# Altium schematic symbol library Inductors.SchLib: 19 symbols
Pins are listed as number, name and electrical type; pins without a type are passive.

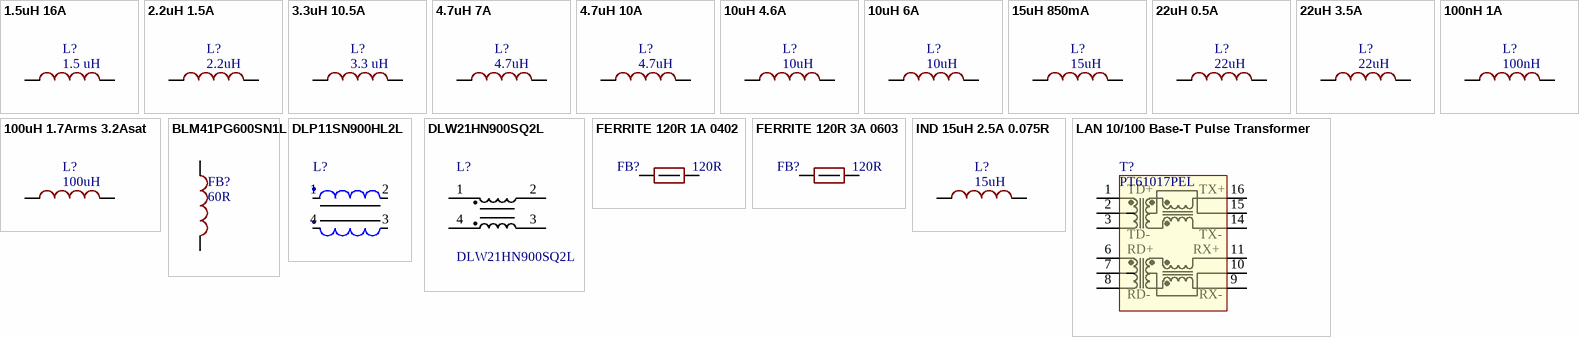
[diagram p0: symbols 1.5uH 16A to LAN 10/100 Base-T Pulse Transformer]

## 1.5uH 16A
designator L?, comment 1.5 uH
FIXED IND 1.5UH 16A 4.6 MOHM SMD; MANUFACTURER: Bournes; MANUFACTURER #: SRP1038A-1R5M; Part Description: 1.5µH Shielded Wirewound Inductor 16A 4.6 mOhm Max Nonstandard; EE_SPEC: 1.5uH 16Arms 33Asat 4.6mOhm; Tolerance: +/- 20%; Value: 1.5 uH; DISTRIBUTOR #: SRP1038A-1R5MCT-ND; DISTRIBUTOR: Digi-Key; PART: 1.5uH 16A
footprint IND_10X10
pins: 1, 2

## 2.2uH 1.5A
designator L?, comment 2.2uH
FIXED IND 2.2UH 1.37A 90 MOHM; MANUFACTURER: Taiyo Yuden; MANUFACTURER #: NRH3012T2R2MN; PART: FIXED IND 2.2UH 1.5A 90 MOHM SMD; Part Description: 2.2µH Shielded Wirewound Inductor 1.37A 90mOhm Max Nonstandard; EE_SPEC: 2.2uH 1.37Arms 1.5Asat 90mOhm; Tolerance: +/- 20%; Value: 2.2uH
footprint INDP3030X15L (Precision Wire Wound Inductor, 2-Leads, Body 3.00x3.00mm, IPC High Density)
pins: 1, 2

## 3.3uH 10.5A
designator L?, comment 3.3 uH
FIXED IND 3.3UH 10.5A 5.67 MOHM; MANUFACTURER: Eaton; MANUFACTURER #: DR127-3R3-R; Part Description: 3.3µH Shielded Wirewound Inductor 10.5A 5.67 mOhm Nonstandard; EE_SPEC: 3.3uH 10.5Arms 21.5Asat 5.67mOhm; Tolerance: +/- 20%; Value: 3.3 uH; DISTRIBUTOR #: 513-1221-2-ND; DISTRIBUTOR: Digi-Key; PART: 3.3uH 10.5A
footprint IND_12.5x12.5_DR127
pins: 1, 2

## 4.7uH 7A
designator L?, comment 4.7uH
FIXED IND 4.7UH 7A 15.5 MOHM SMD; Manufacturer: Wurth; MANUFACTURER #: 74437368047; Part Description: 4.7µH Shielded Molded Inductor 7A 15.5 mOhm Max Nonstandard; EE_SPEC: Irms=7A, Isat=17A,DCR=0.016Ohms; Tolerance: +/- 20%; Value: 4.7uH; DISTRIBUTOR #: 732-3389-1-ND; DISTRIBUTOR: Digi-Key; PART: 4.7uH 7A
footprint IND_10X10
pins: 1, 2

## 4.7uH 10A
designator L?, comment 4.7uH
FIXED IND 4.7UH 10A 15.5 MOHM; Manufacturer: Bourns; MANUFACTURER #: SRP1038A-4R7M; Part Description: 4.7µH Shielded Wirewound Inductor 10A 15.5 mOhm Max Nonstandard; EE_SPEC: Irms=10A, Isat=17A, DCR=0.016Ohms; Tolerance: +/- 20%; Value: 4.7uH; DISTRIBUTOR #: SRP1038A-4R7MTR-ND; DISTRIBUTOR: Digi-Key; PART: 4.7uH 10A
footprint IND_10X10
pins: 1, 2

## 10uH 4.6A
designator L?, comment 10uH
FIXED IND 10UH 4.6A 33 MOHM SMD; Manufacturer: Bournes; MANUFACTURER #: SRN8040TA-100M; Part Description: 10µH Semi-Shielded Wirewound Inductor 4.6A 33 mOhm Nonstandard; EE_SPEC: Irms=4.6A, Isat=5A,DCR=0.033Ohms; Tolerance: +/- 20%; Value: 10uH; DISTRIBUTOR #: SRN8040TA-100MTR-ND; DISTRIBUTOR: Digi-Key; PART: 10uH 4.6A
footprint IND_SRN8040
pins: 1, 2

## 10uH 6A
designator L?, comment 10uH
FIXED IND 10UH 6A 19.5 MOHM SMD; MANUFACTURER: Bourns; MANUFACTURER #: SRR1280-100M; Part Description: 10µH Shielded Wirewound Inductor 6A 19.5 mOhm Max Nonstandard; EE_SPEC: 10uH 6Arms 6.3Asat 19.5mOhm; Tolerance: +/- 20%; Value: 10uH; DISTRIBUTOR #: SRR1280-100MCT-ND; DISTRIBUTOR: Digi-Key; PART: FIXED IND 10UH 6A 19.5 MOHM SMD
footprint IND_12.5X12.5
pins: 1, 2

## 15uH 850mA
designator L?, comment 15uH
FIXED IND 15UH 850MA 252 MOHM; Manufacturer: Yaiyo Yuden; MANUFACTURER #: NRS4018T150MDGJ; Part Description: 15µH Shielded Wirewound Inductor 850mA 252mOhm Max Nonstandard; Tolerance: +/- 20%; Value: 15uH; EE_SPEC: 15UH 850MA 252 MOHM; PART: NRS4018T150MDGJ
footprint IND_4X4
pins: 1, 2

## 22uH 0.5A
designator L?, comment 22uH
FIXED IND 22UH 500MA 756 MOHM; Manufacturer: Yaiyo Yuden; MANUFACTURER #: NRH3012T220MN; PART: 22uH 0.5A; Part Description: 22µH Shielded Wirewound Inductor 500mA 756 mOhm Max Nonstandard; EE_SPEC: 500mA_rms, 500mA_sat, Shielded, 756mOhm; Tolerance: +/- 20%; Value: 22uH; DISTRIBUTOR #: 587-2588-1-ND; DISTRIBUTOR: Digi-Key
footprint IND_3X3
pins: 1, 2

## 22uH 3.5A
designator L?, comment 22uH
FIXED IND 22UH 3.5A 43 MOHM SMD; Manufacturer: Bournes; MANUFACTURER #: SRR1208-220ML; Part Description: 22µH Shielded Wirewound Inductor 3.5A 43 mOhm Max Nonstandard; EE_SPEC: Irms=3.5A, Isat=4A,DCR=0.043Ohms; Tolerance: +/- 20%; Value: 22uH; DISTRIBUTOR #: SRR1208-220MLTR-ND; DISTRIBUTOR: Digi-Key; PART: 22uH 3.5A
footprint IND_SRR1208
pins: 1, 2

## 100nH 1A
designator L?, comment 100nH
FIXED IND 100NH 1.15A 70 MOHM; MANUFACTURER: TDK; MANUFACTURER #: MLZ2012DR10DT000; PART: 100nH 1A; Part Description: 100nH Shielded Multilayer Inductor 1.15A 70mOhm 0805 (2012 Metric); Tolerance: +/- 20%; Value: 100nH; EE_SPEC: 100NH 1.15A 70 MOHM
footprint C0805
pins: 1, 2

## 100uH 1.7Arms 3.2Asat
designator L?, comment 100uH
FIXED IND 100UH 1.7A 190 MOHM; MANUFACTURER: Bourns; MANUFACTURER2 #: SDR1806-101KL; MANUFACTURER #: PM5022-101M-RC; Part Description: 100µH Unshielded Wirewound Inductor 1.7A 190 mOhm Nonstandard; EE_SPEC: 1.7Arms 3.2Asat 190mOhm; Tolerance: +/- 20%; Value: 100uH; MANUFACTURER2: Bourns; DISTRIBUTOR #: M8603TR-ND; DISTRIBUTOR: Digi-Key; PART: 100uH
footprint IND18x14
pins: 1, 2

## BLM41PG600SN1L
designator FB?  value 60R  (hidden comment: BLM41PG600SN1L)
FERRITE BEAD 1806 60ohm; Manufacturer: Murata; PART: 60Rf; Part Description: FERRITE BEAD 60 OHM 1806 1LN; EE_SPEC: 60R 6A 0.009Ohm; Tolerance: NA; MANUFACTURER #: BLM41PG600SN1L; DISTRIBUTOR #: 490-1058-2-ND; DISTRIBUTOR: Digi-Key
footprint L1806 (Chip Inductor, 2-Leads, Body 4.50x1.60mm, IPC Medium Density)
pins: 1, 2

## DLP11SN900HL2L
designator L?, comment 90Rcm  (value not drawn)
CMC 150MA 2LN 90 OHM SMD; MANUFACTURER #: DLP11SN900HL2L; MANUFACTURER: Murata; PART DESCRIPTION: 2 Line Common Mode Choke Surface Mount 90 Ohms @ 100MHz 150mA DCR 1.88 Ohm; TOLERANCE: -NA-; VALUE: 90R; EE_SPEC: 5V 150mA 1.88Ohm; DISTRIBUTOR #: 490-5143-2-ND; DISTRIBUTOR: Digikey; PART: CMC 150MA 2LN 90 OHM SMD
footprint IND_DLP11_1.25x1
pins: 1 (power), 2 (power), 3 (power), 4 (power)

## DLW21HN900SQ2L
designator L?
Common Mode Chokes Dual 90Ohm 100MHz 330mA 350mOhm DCR SMD; MANUFACTURER: Murata; PART: Choke Common-Mode 2LN 90 OHM SMD; PART DESCRIPTION: 2 Line Common Mode Choke Surface Mount 90 Ohm @ 100MHz 330mA DCR 350 mOhm; TOLERANCE: -NA-; VALUE: 90R; EE_SPEC: 50V 330mA 0.33Ohm; MANUFACTURER #: DLW21HN900SQ2L; DISTRIBUTOR #: 490-1064-2-ND; DISTRIBUTOR: Digikey
footprint DLW21HN900SQ2L
pins: 1 (power), 2 (power), 3 (power), 4 (power)

## FERRITE 120R 1A 0402
designator FB?, comment 120R
FERRITE BEAD 120 OHM 0402 1LN; MANUFACTURER: Taiyo Yuden; MANUFACTURER #: BKP1005HS121-T; PART: FERRITE 120R 1A 0402; VALUE: 120Rfb; TOLERANCE: -NA-; EE_SPEC: 1A; DISTRIBUTOR #: 587-1921-2-ND; DISTRIBUTOR: Digikey; PART DESCRIPTION: FERRITE BEAD 120 OHM 0402 1LN
footprint R0402
pins: 1, 2

## FERRITE 120R 3A 0603
designator FB?, comment 120R
FERRITE BEAD 120 OHM 0603 1LN; MANUFACTURER: Samsung; MANUFACTURER #: CIS10P121AC; PART: FERRITE 120R 3A 0603; VALUE: 120Rfb; TOLERANCE: -NA-; EE_SPEC: 3A; DISTRIBUTOR #: 1276-6351-2-ND; DISTRIBUTOR: Digikey; PART DESCRIPTION: FERRITE BEAD 120 OHM 0603 1LN
footprint FB0603 (Ferrite Bead, Samsung CIS10P High Current Series)
pins: 1, 2

## IND 15uH 2.5A 0.075R
designator L?, comment 15uH
FIXED IND 15UH 2.5A 98 MOHM SMD; Manufacturer: TDK; MANUFACTURER #: VLS6045EX-150M; Part Description: 15µH Shielded Wirewound Inductor 2.5A 98 mOhm Max Nonstandard; EE_SPEC: 15uH 2.5A 0.098-Ohm; Tolerance: +/- 20%; ManufacturerPartNumber2: XAL5050-153MEB; Value: 15uH; Manufacturer2: Coilcraft; DISTRIBUTOR #: 445-173041-2-ND; DISTRIBUTOR: Digi-Key; PART: 15uH
footprint XAL50XX-153 (Precision Wire Wound Inductor, 2-Leads, Body 5.28x5.48mm, IPC High Density)
pins: 1, 2

## LAN 10/100 Base-T Pulse Transformer
designator T?, comment PT61017PEL
PULSE XFMR 1CT:1CT 350UH; Manufacturer: Bournes; Part Description: 350µH LAN 10/100 Base-T Pulse Transformer 1CT:1CT Surface Mount; Value: 1:1 350uH; MANUFACTURER #: PT61017PEL; PART: PT61017PEL
footprint PT61017PEL (PULSE XFMR 1CT:1CT 350UH)
pins: 1 TD+ (power) "1", 2 TCT (power) "1", 3 TD- (power) "1", 6 RD+ (power) "1", 7 RCT (power) "1", 8 RD- (power) "1", 9 RX- (power) "1", 10 RXCT (power) "1", 11 RX+ (power) "1", 14 TX- (power) "1", 15 TXCT (power) "1", 16 TX+ (power) "1"